# Altium schematic symbol library DMN62D0UWQ-7.Schlib: 1 symbol
Pins are listed as number, name and electrical type; pins without a type are passive.

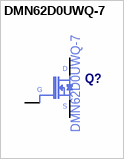
[diagram p0: symbol DMN62D0UWQ-7]

## DMN62D0UWQ-7
designator Q?
Manufacturer Part Number: DMN62D0UWQ-7
pins: 1 G, 2 S, 3 D